# EAGLE library part HIP4086ABZ (library Intersil_By_element14_Batch_1)
3-Phase MOSFET Driver
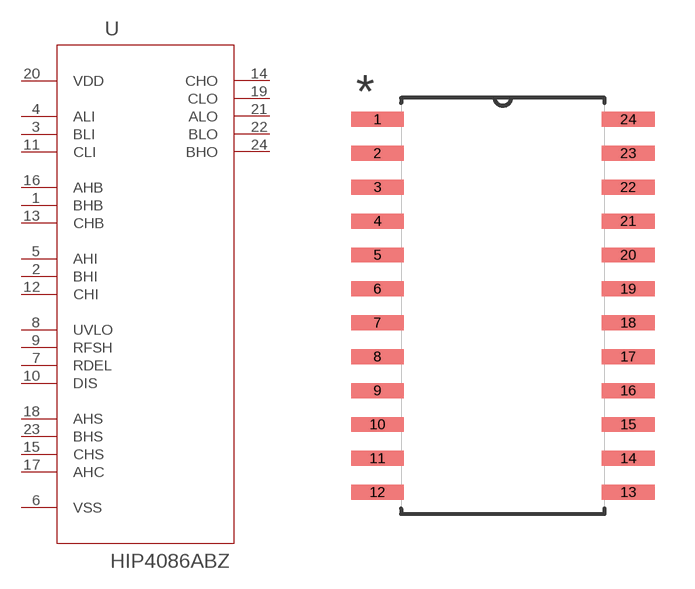
[diagram p158: symbol with the pads of SOIC127P1032X265-24N; footprint SOIC127P1032X265-24N]

Designator prefix U

## HIP4086ABZ (MPN: HIP4086ABZ; OC_FARNELL: 1561974; OC_NEWARK: 20J4468; PACKAGE: SOIC-24; SUPPLIER: INTERSIL)  [SOIC127P1032X265-24N]
1  BHB  pas
2  BHI  in
3  BLI  in
4  ALI  in
5  AHI  in
6  VSS  pas
7  RDEL  in
8  UVLO  in
9  RFSH  in
10  DIS  in
11  CLI  in
12  CHI  in
13  CHB  pas
14  CHO  out
15  CHS  in
16  AHB  pas
17  AHC  pas
18  AHS  in
19  CLO  out
20  VDD  pwr
21  ALO  out
22  BLO  out
23  BHS  in
24  BHO  out

## Footprint SOIC127P1032X265-24N (pad centres in mm)
smd 1.981 x 0.559: 1 -4.699,6.985; 2 -4.699,5.715; 3 -4.699,4.445; 4 -4.699,3.175; 5 -4.699,1.905; 6 -4.699,0.635; 7 -4.699,-0.635; 8 -4.699,-1.905; 9 -4.699,-3.175; 10 -4.699,-4.445; 11 -4.699,-5.715; 12 -4.699,-6.985; 13 4.699,-6.985; 14 4.699,-5.715; 15 4.699,-4.445; 16 4.699,-3.175; 17 4.699,-1.905; 18 4.699,-0.635; 19 4.699,0.635; 20 4.699,1.905; 21 4.699,3.175; 22 4.699,4.445; 23 4.699,5.715; 24 4.699,6.985